# Altium schematic symbol library SCH - DIODES - SCHOTTKY_DualCommonCathode.SCHLIB: 2 symbols
Pins are listed as number, name and electrical type; pins without a type are passive.

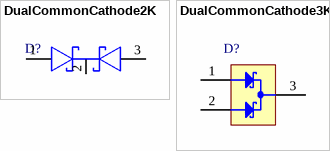
[diagram p0: symbols DualCommonCathode2K to DualCommonCathode3K]

## DualCommonCathode2K
designator D?
pins: 1 A, 2 K, 3 A

## DualCommonCathode3K
designator D?
pins: 1 A, 2 A, 3 K